# EAGLE library part TPS79301 (library RHD2000_eval_board)
Texas Instruments TPS79301 adjustable regulator
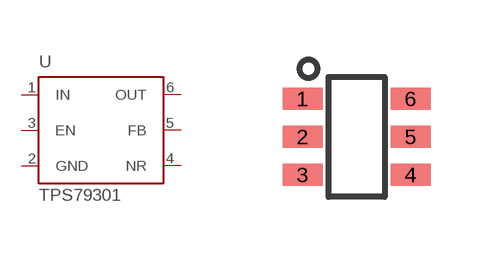
[diagram p7: symbol with the pads of SOT-23-6; footprint SOT-23-6]

Designator prefix U

## TPS79301  [SOT-23-6]
1  IN  pwr
2  GND  pwr
3  EN  in
4  NR  pas
5  FB  in
6  OUT  pwr

## Footprint SOT-23-6 (pad centres in mm)
smd 1 x 0.55: 1 -1.35,0.95; 2 -1.35,0; 3 -1.35,-0.95; 4 1.35,-0.95; 5 1.35,0; 6 1.35,0.95